# Altium footprint library Sensing Element.PcbLib: 18 footprints (part 1 of 2)
Each footprint in its own frame and in the unit in brackets; x right, y up, seen from the top. Pads: shape width x height; smd on the part's side, far side on the other; paste and mask are expansions set on the pad; w line width, h text height; cw(c..) or ccw(c..) is an arc to the next point about the centre after c.
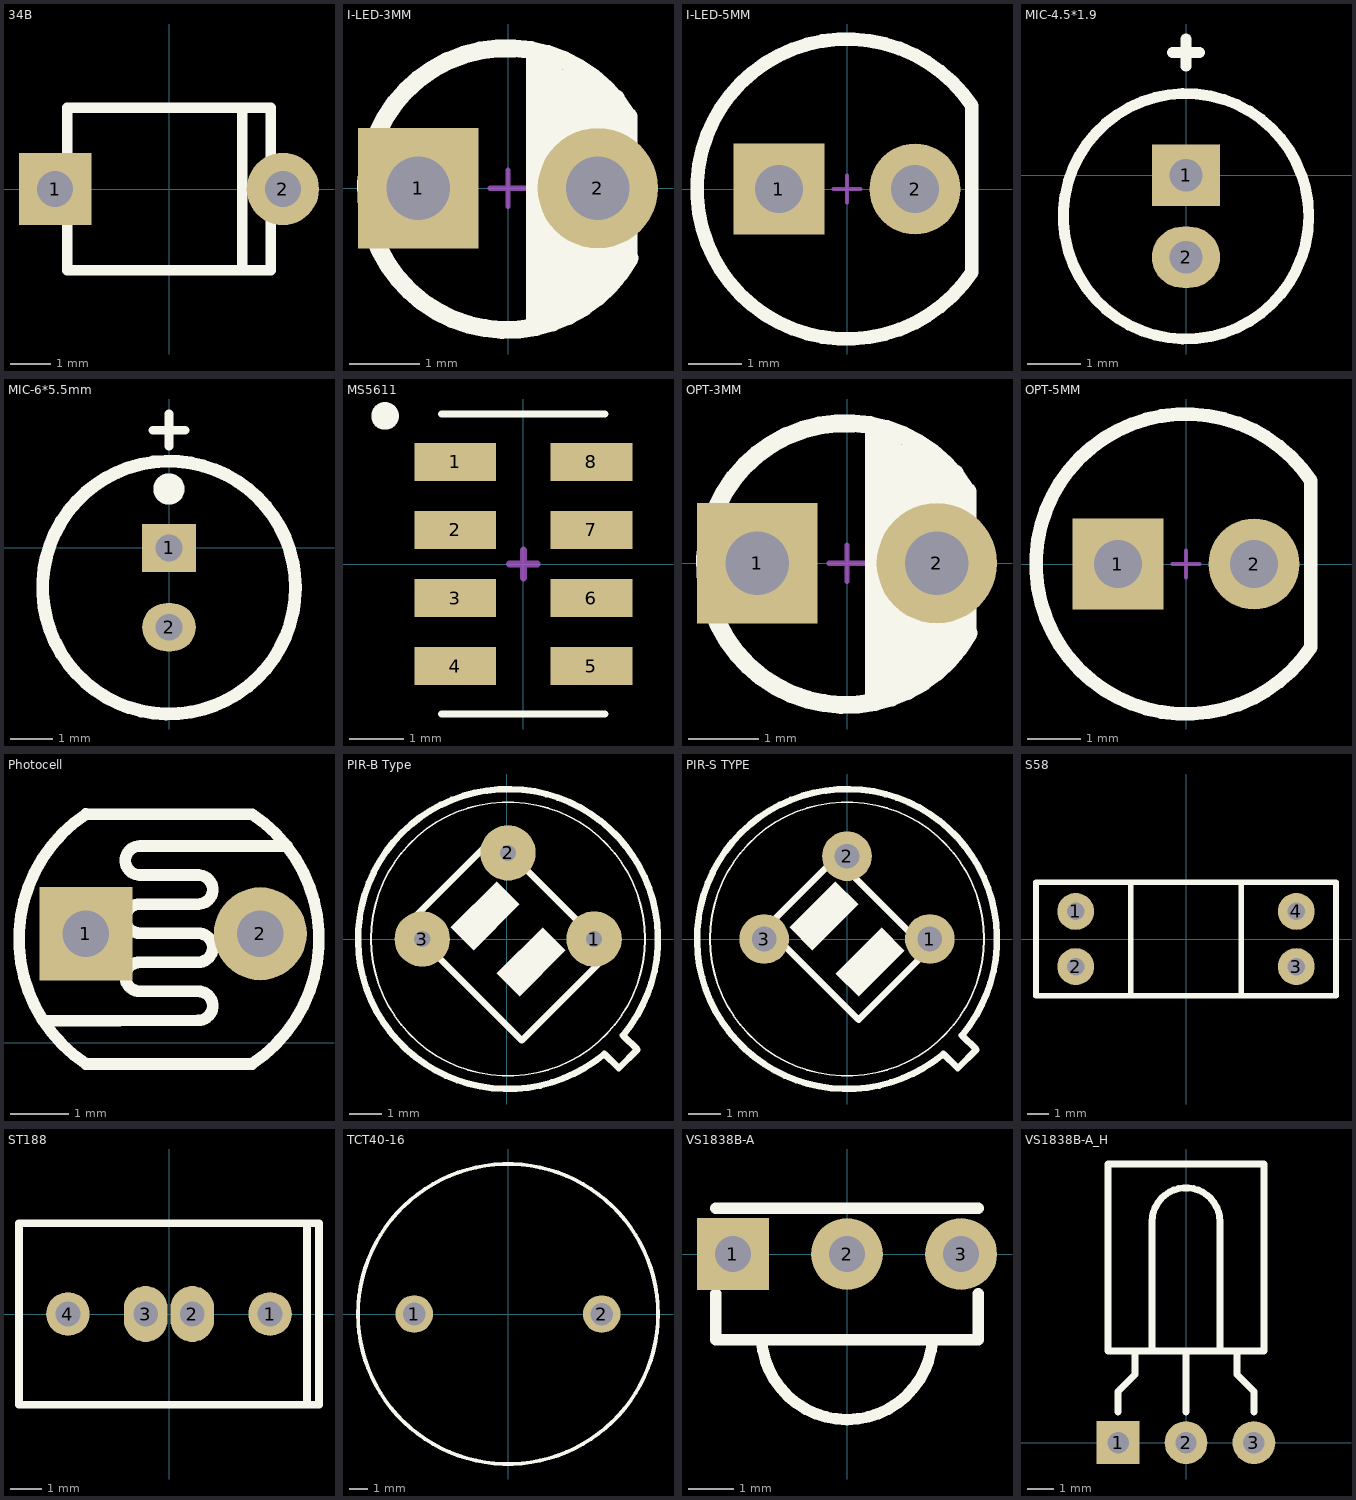
[diagram p0: the footprints below, top view; thin cyan lines are the x and y axes]

## 34B [mil]
pads (2):
  rect 70x70 hole 35: 1(-110.24,0)
  round 70 hole 35: 2(110.24,0)
Top Overlay:
  lines w10: 70.87,-78.74 70.87,78.74 ; -98.43,-78.74 -98.43,78.74 98.43,78.74 98.43,-78.74 -98.43,-78.74
3D body: height 111.42, standoff 95.47, extent -78.74,-66.93 78.74,66.93
3D body "BPW34B.STEP": height 112.2, standoff -99.03, extent -120.53,-78.74 120.53,78.74

## I-LED-3MM [mm] "3mmï¿½ï¿½ï¿½â·¢ï¿½ï¿½ï¿½"
height 6.35
pads (2):
  rect 1.7x1.7 hole 0.9: 1(-1.27,0)
  round 1.7 hole 0.9: 2(1.27,0)
Top Overlay:
  lines w0.254: 0.381,-1.905 0.381,1.905 ; 0.635,-1.778 0.635,1.778 ; 1.016,-1.651 1.016,1.524 ; 1.524,1.27 1.524,-1.27 1.27,-1.524 1.27,1.397 1.143,1.524 1.016,1.524 ; 1.685,1.025 ccw(c-0.016,-0.012) 1.72,-0.987 ; 1.702,-0.965 1.702,1.016 ; 0.889,1.651 0.889,-1.778 0.889,1.651 ; 0.889,1.651 1.016,1.524
Mechanical 15:
  lines w0.076: -0.254,0 0.254,0 ; 0,-0.254 0,0.254
3D body "LED 3mm-������.STEP": height 5.55, standoff 0.05, extent -1.95,-1.95 1.638,1.95
3D body "LED 3mm-W.STEP": height 2.56, standoff -3.45, extent -1.623,-0.838 1.618,0.838

## I-LED-5MM [mm] "5mmï¿½ï¿½ï¿½â·¢ï¿½ï¿½ï¿½"
height 10.16
pads (2):
  rect 1.7x1.7 hole 0.9: 1(-1.27,0)
  round 1.7 hole 0.9: 2(1.27,0)
Top Overlay:
  lines w0.254: 2.33,-1.553 cw(c0,0) 2.33,1.553 2.33,-1.553
Mechanical 15:
  lines w0.076: -0.254,0 0.254,0 ; 0,-0.254 0,0.254
3D body "LED 5mm-W.STEP": height 4.5, standoff -3.45, extent -1.983,-0.795 2.076,0.805
3D body "LED 5mm������.STEP": height 8.75, standoff 0.05, extent -2.85,-2.85 2.454,2.85

## MIC-4.5*1.9 [mil] "ï¿½ï¿½ï¿½ï¿½Í·"
pads (2):
  rect 50x45 hole 24: 1(0,0)
  oval 50x45 hole 24: 2(0,-60)
Top Overlay:
  circle w8: c0,-30 r90
  lines w8: -10,90 10,90 ; 0,80 0,100
3D body "MIC4.5X1.9.stp": height 75.38, standoff -110.24, extent -88.81,-118.58 88,58.58

## MIC-6*5.5mm [mil] "ï¿½ï¿½ï¿½ï¿½Í·"
pads (2):
  rect 50x45 hole 25: 1(0,0)
  oval 50x45 hole 25: 2(0,-74)
Top Overlay:
  circle w12: c0,-37 r118
  circle w15: c0,55 r7.07
  lines w8: -15,110 15,110 ; 0,95 0,125
3D body "MIC6X5.5mm.stp": height 197.64, standoff -118.11, extent -25,-241.22 210.56,-5

## MS5611 [mm] "ï¿½ï¿½Ñ¹ï¿½ï¿½ï¿½ï¿½Ð¾Æ¬"
pads (8):
  rect 1.5x0.7 smd: 1(-1.25,1.875) 2(-1.25,0.625) 3(-1.25,-0.625) 4(-1.25,-1.875) 5(1.25,-1.875) 6(1.25,-0.625) 7(1.25,0.625) 8(1.25,1.875)
Top Overlay:
  circle w0.454: c-2.54,2.718 r0.025
  lines w0.127: -1.5,-2.754 1.5,-2.754 ; -1.5,2.754 1.5,2.754
Mechanical 15:
  lines w0.127: -0.254,0 0.254,0 ; 0,-0.254 0,0.254
3D body "SM5611.STEP": height 1, standoff -0.01, extent -1.5,-2.5 1.501,2.5

## OPT-3MM [mm] "3mmï¿½ï¿½ï¿½ï¿½ï¿½ï¿½Õ¹ï¿½"
height 6.35
pads (2):
  rect 1.7x1.7 hole 0.9: 1(-1.27,0)
  round 1.7 hole 0.9: 2(1.27,0)
Top Overlay:
  lines w0.254: 0.381,-1.905 0.381,1.905 ; 0.635,-1.778 0.635,1.778 ; 1.016,-1.651 1.016,1.524 ; 1.524,1.27 1.524,-1.27 1.27,-1.524 1.27,1.397 1.143,1.524 1.016,1.524 ; 1.685,1.025 ccw(c-0.016,-0.012) 1.72,-0.987 ; 1.702,-0.965 1.702,1.016 ; 0.889,1.651 0.889,-1.778 0.889,1.651 ; 0.889,1.651 1.016,1.524
Mechanical 15:
  lines w0.076: -0.254,0 0.254,0 ; 0,-0.254 0,0.254
3D body "LED 3mm-������.STEP": height 5.55, standoff 0.05, extent -1.95,-1.95 1.638,1.95
3D body "LED 3mm-W.STEP": height 2.56, standoff -3.45, extent -1.623,-0.838 1.618,0.838

## OPT-5MM [mm] "5mmï¿½ï¿½ï¿½ï¿½ï¿½ï¿½Õ¹ï¿½"
height 10.16
pads (2):
  rect 1.7x1.7 hole 0.9: 1(-1.27,0)
  round 1.7 hole 0.9: 2(1.27,0)
Top Overlay:
  lines w0.254: 2.33,-1.553 cw(c0,0) 2.33,1.553 2.33,-1.553
Mechanical 15:
  lines w0.076: -0.254,0 0.254,0 ; 0,-0.254 0,0.254
3D body "LED 5mm������.STEP": height 8.75, standoff 0.05, extent -2.85,-2.85 2.454,2.85
3D body "LED 5mm-W.STEP": height 4.5, standoff -3.45, extent -1.983,-0.795 2.076,0.805

## Photocell [mm] "LDR"
pads (2):
  rect 1.6x1.6 hole 0.8: 1(3.194,1.876)
  round 1.6 hole 0.8: 2(6.194,1.876)
Top Overlay:
  lines w0.2: 2.464,0.376 5.124,0.386 ccw(c5.126,0.636) 5.125,0.886 4.124,0.886 cw(c4.123,1.136) 4.124,1.386 5.124,1.386 ccw(c5.126,1.636) 5.125,1.886 4.124,1.886 cw(c4.123,2.136) 4.124,2.386 5.124,2.386 ccw(c5.126,2.636) 5.125,2.886 4.125,2.886 ; 3.194,-0.364 6.053,-0.364 ; 3.194,3.936 6.053,3.934 cw(c4.624,1.786) 6.052,-0.363 ; 3.195,-0.363 cw(c4.624,1.786) 3.195,3.934 ; 4.124,2.886 cw(c4.123,3.136) 4.125,3.386 6.654,3.386
3D body "RG5528.STEP": height 1.9, standoff -3.45, extent 2.112,-0.366 7.112,3.934

## PIR-B Type [mm] "For D203B and D204B PIR Sensors"
height 4.7
pads (3):
  round 1.7 hole 0.5: 1(2.68,0) 2(0.04,2.64) 3(-2.59,0)
Top Overlay:
  circle w0.05: c0.04,0 r4.2
  region: 1.105,0.358 -0.309,-1.056 0.398,-1.763 1.812,-0.349
  region: -0.309,1.772 -1.723,0.358 -1.016,-0.349 0.398,1.065
  lines w0.2: -3.071,0.424 -0.384,3.111 3.151,-0.424 0.464,-3.111 -3.071,0.424 ; 2.997,-3.524 cw(c0.04,0) 3.564,-2.957 4.01,-3.39 3.44,-3.96 2.997,-3.524

## PIR-S TYPE [mil] "For D203S and D204S PIR Sensors"
height 185.04
pads (3):
  round 60 hole 30: 1(100,0) 2(0,100) 3(-100,0)
Top Overlay:
  circle w1.97: c0,0 r165.35
  region: 41.76,13.92 -13.92,-41.76 13.92,-69.6 69.59,-13.92
  region: -13.92,69.6 -69.6,13.92 -41.76,-13.92 13.92,41.76
  lines w7.87: -97.44,13.92 -13.92,97.44 97.44,-13.92 13.92,-97.44 -97.44,13.92 ; 116.41,-138.73 cw(c0,0) 138.73,-116.41 156.3,-133.46 133.86,-155.91 116.41,-138.73
Mechanical 1:
  lines w7.87: 138.67,-116.36 139.19,-116.36
3D body "PIR_S_Orginal.STEP": height 185.04, standoff -78.74, extent -178.63,-177.59 179.64,179.49

## S58 [mm] "ï¿½ï¿½ï¿½ï¿½ï¿½Í¹ï¿½ï¿½ï¿½"
pads (4):
  round 1.7 hole 0.8: 1(-5.08,1.27) 2(-5.08,-1.27) 3(5.08,-1.27) 4(5.08,1.27)
Top Overlay:
  lines w0.254: -2.54,-2.616 -2.54,2.616 ; 2.54,-2.54 2.54,2.54 ; -6.909,-2.616 -6.909,2.616 -5.08,2.616 6.909,2.616 6.909,-2.616 -6.909,-2.616
3D body "S58.STEP": height 10, standoff -3.5, extent -6.9,-2.6 6.9,2.6

## ST188 [mm] "ï¿½ï¿½ï¿½ï¿½ï¿½Í¹ï¿½ï¿½ï¿½"
pads (4):
  round 1.4 hole 0.8: 1(3.25,0) 4(-3.25,0)
  oval 1.4x1.8 hole 0.8: 2(0.75,0) 3(-0.75,0)
Top Overlay:
  lines w0.254: 4.445,-2.921 4.445,2.921 ; -4.826,-2.921 -4.826,2.921 4.826,2.921 4.826,-2.921 -4.826,-2.921
3D body "ST188.STEP": height 8.2, standoff -3.5, extent -4.7,-2.75 4.7,2.75

## TCT40-16 [mm] "ï¿½ï¿½ï¿½ï¿½ï¿½ï¿½ï¿½ï¿½ï¿½ä¡¢ï¿½ï¿½ï¿½"
pads (2):
  round 2 hole 1.2: 1(-5,0) 2(5,0)
Top Overlay:
  circle w0.203: c0,0 r8
3D body "TCT40.step": height 12, standoff -10, extent -8.1,-8.1 8.1,8.1

## VS1838B-A [mm] "Ò»ï¿½ï¿½ï¿½ï¿½ï¿½ï¿½ï¿½ï¿½Í·"
pads (3):
  rect 1.6x1.6 hole 0.8: 1(-2.54,0)
  round 1.6 hole 0.8: 2(0,0) 3(2.54,0)
Top Overlay:
  lines w0.254: -2.921,-0.889 -2.921,-1.905 2.921,-1.905 2.921,-0.889 ; -2.921,1.016 2.921,1.016 ; -1.905,-1.905 ccw(c0,-1.778) 1.905,-1.905
3D body "VS1838B-A.STEP": height 8.3, standoff -3.5, extent -2.84,-3.6 2.84,0.8

## VS1838B-A_H [mm] "ï¿½ï¿½Ê½Ò»ï¿½ï¿½ï¿½ï¿½ï¿½ï¿½ï¿½ï¿½Í·"
pads (3):
  rect 1.6x1.6 hole 0.8: 1(-2.54,0)
  round 1.6 hole 0.8: 2(0,0) 3(2.54,0)
Top Overlay:
  lines w0.254: -2.54,1.143 -2.54,1.905 -1.905,2.54 -1.905,3.429 ; -1.27,3.429 -1.27,8.255 cw(c0,8.255) 1.27,8.255 1.27,3.429 ; 0,1.143 0,3.429 ; 1.905,3.429 1.905,2.54 2.54,1.905 2.54,1.143 ; -2.921,3.429 -2.921,10.414 2.921,10.414 2.921,3.429 -2.921,3.429
3D body "VS1838B-A_H.STEP": height 4.4, standoff -3.5, extent -2.84,-0.2 2.84,10.3